# Altium schematic symbol library ics.SchLib: 32 symbols
Pins are listed as number, name and electrical type; pins without a type are passive.

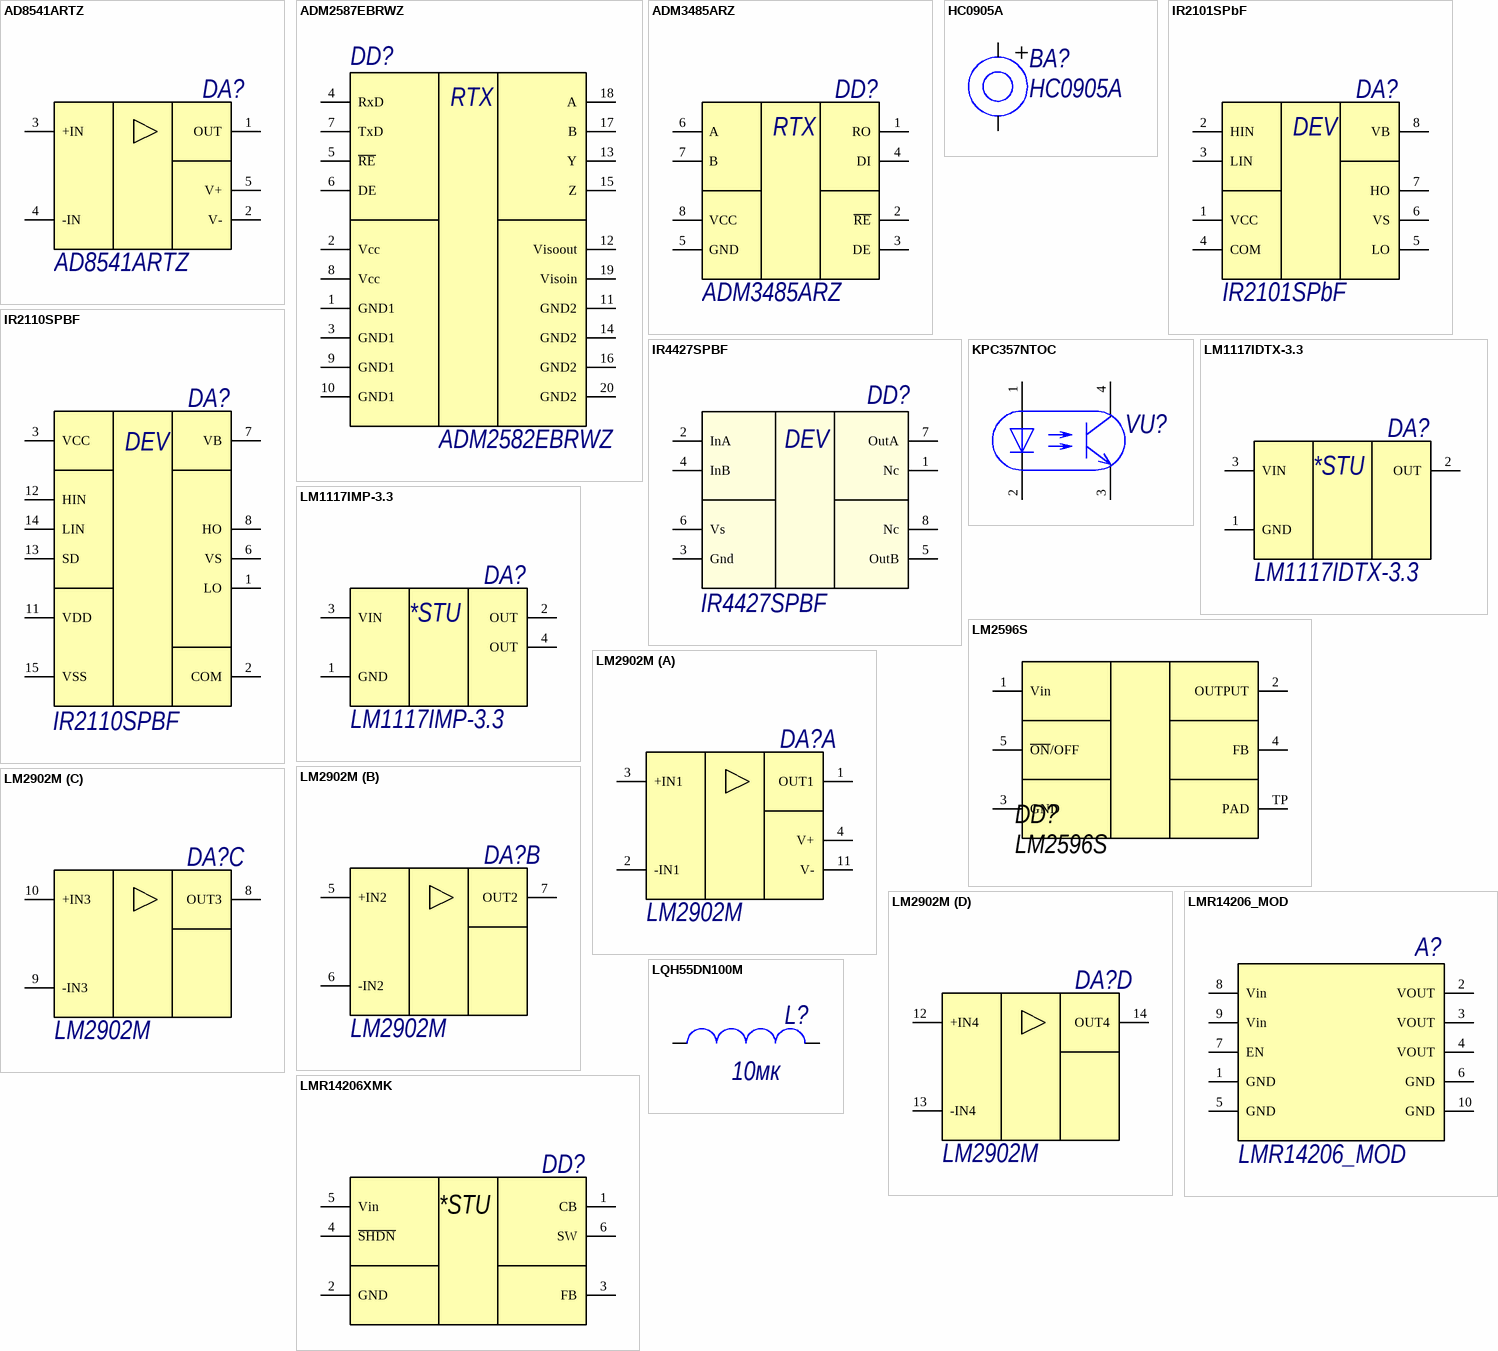
[diagram p0: symbols AD8541ARTZ to LQH55DN100M]

## AD8541ARTZ
designator DA?
Операционнй усилитель ОУ 2.7-5.5В CMOS Rail-to-rail; Manufacturer: Analog Devices; Name: AD8541ARTZ
footprint SOT23-5
pins: 1 OUT, 2 V-, 3 +IN, 4 -IN, 5 V+

## ADM2587EBRWZ
designator DD?, comment ADM2582EBRWZ
Приемопередатчик RS485 изолированный; Link: *; Name: ADM2582EBRWZ
pins: 1 GND1, 2 Vcc, 3 GND1, 4 RxD, 5 ~{RE}, 6 DE, 7 TxD, 8 Vcc, 9 GND1, 10 GND1, 11 GND2, 12 Visoout, 13 Y, 14 GND2, 15 Z, 16 GND2, 17 B, 18 A, 19 Visoin, 20 GND2
text: RTX

## ADM3485ARZ
designator DD?
Приемопередатчик RS-485 полудуплекс 10(мБит); Manufacturer: Analog Devices; Name: ADM3485ARZ
footprint SO-8 (SOIC, 8-Leads, Body 4,90x3,90mm, Pitch 1,27mm, IPC High Density)
pins: 1 RO, 2 ~{RE}, 3 DE, 4 DI, 5 GND, 6 A, 7 B, 8 VCC
text: RTX

## HC0905A
designator BA?
Излучатель звука; Manufacturer: JL World; Rated voltage: 5В; Rated current: 80мА; Resonant frequency: 3200Гц; Name: HC0905A
footprint HC09A
pins: 1, 2

## IR2101SPbF
designator DA?
Драйвер МОП-транзисторов верхнего и нижнего ключей; Manufacturer: International Rectifier; Name: IR2101SPbF
footprint SO-8 (SOIC, 8-Leads, Body 4,90x3,90mm, Pitch 1,27mm, IPC High Density)
pins: 1 VCC, 2 HIN, 3 LIN, 4 COM, 5 LO, 6 VS, 7 HO, 8 VB
text: DEV

## IR2110SPBF
designator DA?
Драйвер транзисторов MOSFET/IGBT Io = 2(А); Name: IR2110SPBF
footprint SO16W (SOIC, 16-Leads, Body 10,30x7,50mm, Pitch 1,27mm, IPC High Density)
pins: 1 LO, 2 COM, 3 VCC, 6 VS, 7 VB, 8 HO, 11 VDD, 12 HIN, 13 SD, 14 LIN, 15 VSS
text: DEV

## IR4427SPBF
designator DD?
Драйвер ключей нижнего уровня; Name: IR4427SPBF
footprint SO-8 (SOIC, 8-Leads, Body 4,90x3,90mm, Pitch 1,27mm, IPC High Density)
pins: 1 Nc, 2 InA, 3 Gnd, 4 InB, 5 OutB, 6 Vs, 7 OutA, 8 Nc
text: DEV

## KPC357NTOC
designator VU?  (value not drawn)
Оптопара транзисторная; Manufacturer: Cosmo Electronics; Name: KPC357NTOC
footprint SOP-4 (SOP, 4-Leads, Body 3,90x4,40mm, Pitch 2,54mm, IPC High Density)
pins: 1 A, 2 K, 3 E, 4 C

## LM1117IDTX-3.3
designator DA?
Линейный стабилизатор напряжения 3,3В; Manufacturer: Texas Instruments; Name: LM1117IDTX-3.3
footprint D-PAK (D-PAK, 3-Pads, Body 6,21x6,73mm (max), IPC High Density)
pins: 1 GND, 2 OUT, 3 VIN
text: *STU

## LM1117IMP-3.3
designator DA?
Линейный стабилизатор напряжения 3,3В; Manufacturer: Texas Instruments; Name: LM1117IMP-3.3
pins: 1 GND, 2 OUT, 3 VIN, 4 OUT
text: *STU

## LM2596S
designator DD?
Name: LM2596S
footprint D2PAK-5 (KTT0005B)
pins: 1 Vin, 2 OUTPUT, 3 GND, 4 FB, 5 ~{ON}/OFF, TP PAD

## LM2902M
designator DA?
Операционнй усилитель ОУ 3-32В CMOS R; Manufacturer: Analog Devices; Name: LM2902M
footprint DIP-14
part A pins: 1 OUT1, 2 -IN1, 3 +IN1, 4 V+, 11 V-
part B pins: 5 +IN2, 6 -IN2, 7 OUT2
part C pins: 8 OUT3, 9 -IN3, 10 +IN3
part D pins: 12 +IN4, 13 -IN4, 14 OUT4

## LMR14206_MOD
designator A?
Импульсный DC/DC
pins: 1 GND, 2 VOUT, 3 VOUT, 4 VOUT, 5 GND, 6 GND, 7 EN, 8 Vin, 9 Vin, 10 GND

## LMR14206XMK
designator DD?  (value not drawn)
Понижающий DC/DC преобразователь Uвх=42В, Iвых=0,6А; Manufacturer: Texas Instruments; Name: LMR14206XMK
pins: 1 CB, 2 GND, 3 FB, 4 ~{SHDN}, 5 Vin, 6 SW
text: *STU

## LQH55DN100M
designator L?  value 10мк  (hidden comment: LQH55DN100M)
Катушка индуктивности; Name: LQH55DN100M; I saturation: *
pins: 1 3, 2 4

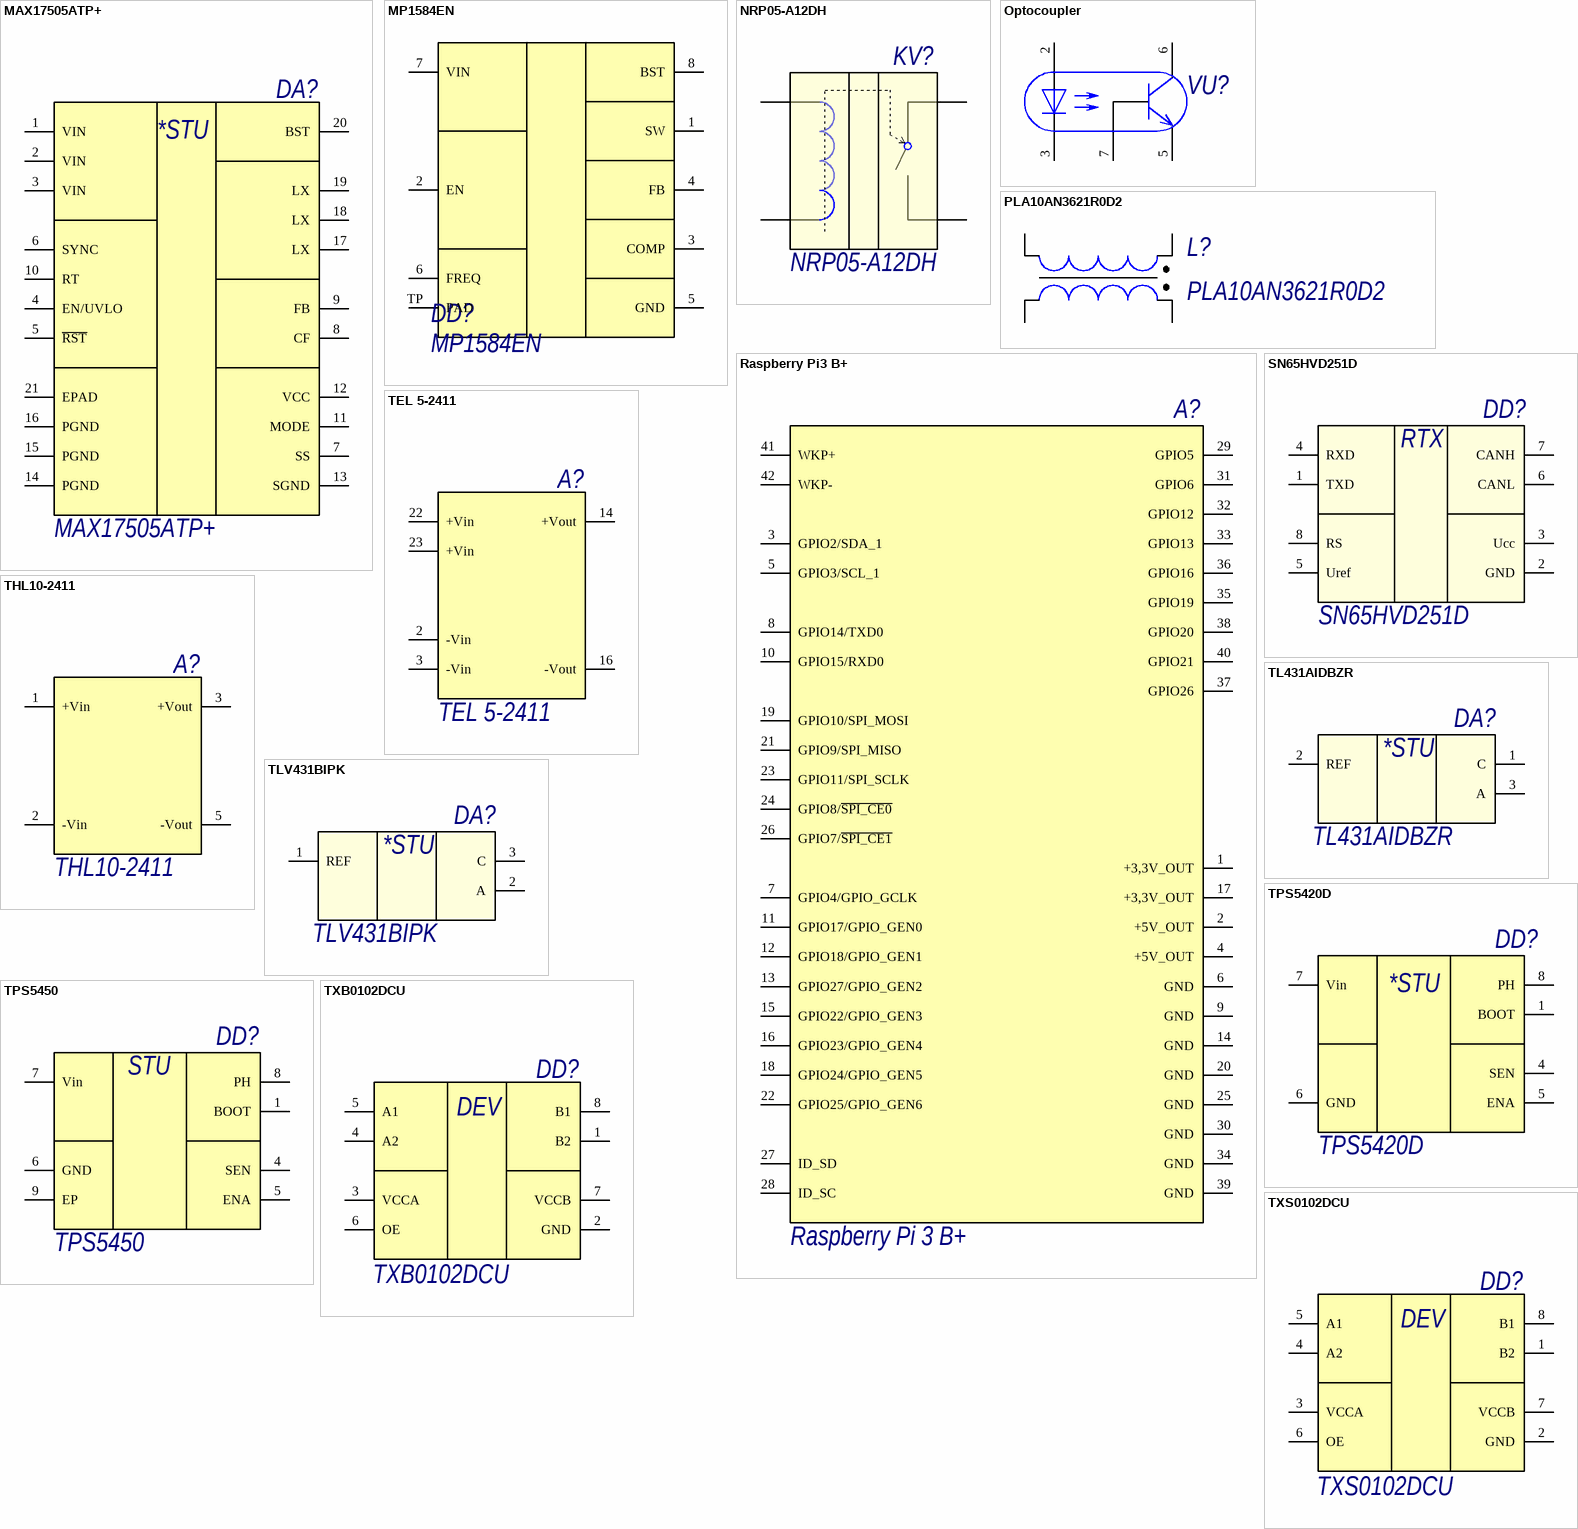
[diagram p1: symbols MAX17505ATP+ to TXS0102DCU]

## MAX17505ATP+
designator DA?
Понижающий DC/DC с широким диапазоном входых напряжений; Manufacturer: Maxim Integrated; Name: MAX17505ATP+
pins: 1 VIN, 2 VIN, 3 VIN, 4 EN/UVLO, 5 ~{RST}, 6 SYNC, 7 SS, 8 CF, 9 FB, 10 RT, 11 MODE, 12 VCC, 13 SGND, 14 PGND, 15 PGND, 16 PGND, 17 LX, 18 LX, 19 LX, 20 BST, 21 EPAD
text: *STU

## MP1584EN
designator DD?
регулируемый стабилизатор напряжения; Name: MP1584EN
footprint SOIC-8 with PAD
pins: 1 SW, 2 EN, 3 COMP, 4 FB, 5 GND, 6 FREQ, 7 VIN, 8 BST, TP PAD

## NRP05-A12DH
designator KV?
Реле электромеханическое нормальноразомкнутое одноканальное; Manufacturer: NCR Industrial & Electrical Components; Nom. operate voltage: 12В; Max. operate voltage: 15,6В; Coil resistance: 720Ом; Pull-in voltage: 9В; Drop-out voltage: 0,6В; Max. contact resistance: 50мОм; Max. operation time: 10мс; Max. voltage; DC: 30В; Max. voltage; AC: 265В; Max. current; DC: 5А; Nom. coil power: 0,2Вт; Max. release time: 4мс; Name: NRP05-A12DH
footprint NRP05-A12DH
pins: 1, 2, 3, 4

## Optocoupler
designator VU?, comment -  (value not drawn)
Оптопара транзисторная DIP-8; Manufacturer: -; TU: -; Name: -
footprint DIP-8
pins: 2, 3, 5, 6, 7

## PLA10AN3621R0D2
designator L?
Синфазный дроссель; Manufacturer: Epcos TDK; Current: 1А; Inductance: 3,6мГн; Name: PLA10AN3621R0D2
footprint PLA10 (синфазный дроссель murata)
pins: 1, 2, 3, 4

## Raspberry Pi3 B+
designator A?  Name: Raspberry Pi 3 B+  (hidden comment: Raspberry Pi3 B+)
footprint RASPBERRY_PI_3
pins: 1 +3,3V_OUT, 2 +5V_OUT, 3 GPIO2/SDA_1, 4 +5V_OUT, 5 GPIO3/SCL_1, 6 GND, 7 GPIO4/GPIO_GCLK, 8 GPIO14/TXD0, 9 GND, 10 GPIO15/RXD0, 11 GPIO17/GPIO_GEN0, 12 GPIO18/GPIO_GEN1, 13 GPIO27/GPIO_GEN2, 14 GND, 15 GPIO22/GPIO_GEN3, 16 GPIO23/GPIO_GEN4, 17 +3,3V_OUT, 18 GPIO24/GPIO_GEN5, 19 GPIO10/SPI_MOSI, 20 GND, 21 GPIO9/SPI_MISO, 22 GPIO25/GPIO_GEN6, 23 GPIO11/SPI_SCLK, 24 GPIO8/~{SPI_CE0}, 25 GND, 26 GPIO7/~{SPI_CE1}, 27 ID_SD, 28 ID_SC, 29 GPIO5, 30 GND, 31 GPIO6, 32 GPIO12, 33 GPIO13, 34 GND, 35 GPIO19, 36 GPIO16, 37 GPIO26, 38 GPIO20, 39 GND, 40 GPIO21, 41 WKP+, 42 WKP-

## SN65HVD251D
designator DD?
Приемопередатчик CAN; Name: SN65HVD251D
footprint SO-8 (Footprint not found)
pins: 1 TXD, 2 GND, 3 Ucc, 4 RXD, 5 Uref, 6 CANL, 7 CANH, 8 RS
text: RTX

## TEL 5-2411
designator A?
DC/DC конвертор Uвх = 18 ... 36 (В), Uвых = 5;; Name: TEL 5-2411; Link: https://www.terraelectronica.ru/catalog.php?ID=1430&search=tel%2052411
footprint TEL 5-2411
pins: 2 -Vin, 3 -Vin, 14 +Vout, 16 -Vout, 22 +Vin, 23 +Vin

## THL10-2411
designator A?
DC/DC конвертор Uвх = 18 ... 36 (В), 10(Вт) Uвых = 5,1;; Name: THL10-2411
footprint THL10-2411
pins: 1 +Vin, 2 -Vin, 3 +Vout, 5 -Vout

## TL431AIDBZR
designator DA?
Линейный стабилизатор настраиваемый; Name: TL431AIDBZR
footprint SOT23-3 (SOT23, 3-Leads, Body 2,90x2,30mm, Pitch 0,95mm, IPC Medium Density)
pins: 1 C, 2 REF, 3 A
text: *STU

## TLV431BIPK
designator DA?
Линейный стабилизатор настраиваемый; Name: TLV431BIPK
footprint SOT23-3 (SOT23, 3-Leads, Body 2,90x2,30mm, Pitch 0,95mm, IPC Medium Density)
pins: 1 REF, 2 A, 3 C
text: *STU

## TPS5420D
designator DD?
DC/DC преобразователь; name: TPS5420D
footprint SO-8 (SOIC, 8-Leads, Body 4,90x3,90mm, Pitch 1,27mm, IPC High Density)
pins: 1 BOOT, 4 SEN, 5 ENA, 6 GND, 7 Vin, 8 PH
text: *STU

## TPS5450
designator DD?, comment name  (value not drawn)
DC/DC преобразователь; name: TPS5450
footprint SO-8PP (SOIC, 8-Leads, Body 4,90x3,90mm, Pitch 1,27mm, IPC High Density)
pins: 1 BOOT, 4 SEN, 5 ENA, 6 GND, 7 Vin, 8 PH, 9 EP
text: STU

## TXB0102DCU
designator DD?
Шинный формирователь 2-х канальный; Manufacturer: Texas Instruments; Name: TXB0102DCU
footprint VSSOP-8
pins: 1 B2, 2 GND, 3 VCCA, 4 A2, 5 A1, 6 OE, 7 VCCB, 8 B1
text: DEV

## TXS0102DCU
designator DD?
Шинный формирователь 2-х канальный (открытый сток); Manufacturer: Texas Instruments; Name: TXS0102DCU
footprint VSSOP-8
pins: 1 B2, 2 GND, 3 VCCA, 4 A2, 5 A1, 6 OE, 7 VCCB, 8 B1
text: DEV

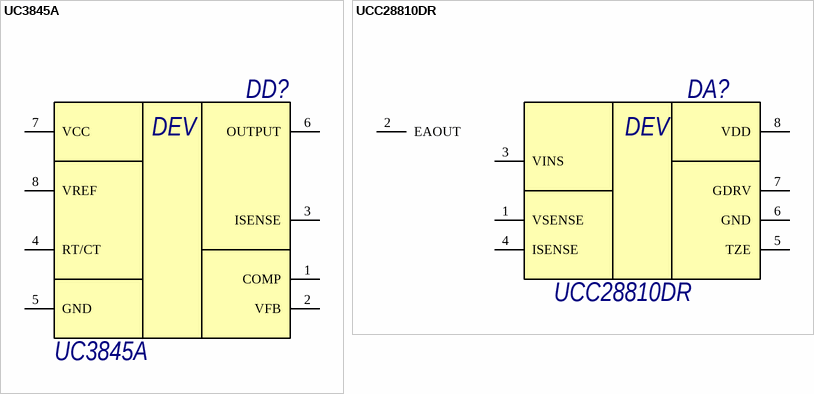
[diagram p2: symbols UC3845A to UCC28810DR]

## UC3845A
designator DD?
ШИМ-контроллер; Manufacturer: Texas Instruments; Name: UC3845A
footprint SO-8 (SOIC, 8-Leads, Body 4,90x3,90mm, Pitch 1,27mm, IPC High Density)
pins: 1 COMP, 2 VFB, 3 ISENSE, 4 RT/CT, 5 GND, 6 OUTPUT, 7 VCC, 8 VREF
text: DEV

## UCC28810DR
designator DA?
Контроллер питания светодиодного освещения; Manufacturer: Texas Instruments; Name: UCC28810DR
footprint SO-8 (SOIC, 8-Leads, Body 4,90x3,90mm, Pitch 1,27mm, IPC High Density)
pins: 1 VSENSE, 2 EAOUT, 3 VINS, 4 ISENSE, 5 TZE, 6 GND, 7 GDRV, 8 VDD
text: DEV